# EAGLE library part S-CLK (library snes_mb)
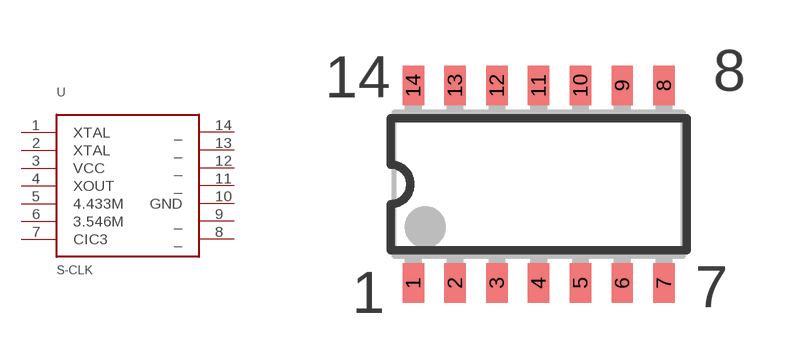
[diagram p14: symbol with the pads of SO14L; footprint SO14L]

Designator prefix U

## S-CLK  [SO14L]
1  XTAL
2  XTAL
3  VCC  pwr
4  XOUT
5  4.433M
6  3.546M
7  CIC3
8  _
9  _
10  GND  pwr
11  _
12  _
13  _
14  _

## Footprint SO14L (pad centres in mm)
smd 0.65 x 1.2: 1 -3.81,-3; 2 -2.54,-3; 3 -1.27,-3; 4 0,-3; 5 1.27,-3; 6 2.54,-3; 7 3.81,-3; 8 3.81,3; 9 2.54,3; 10 1.27,3; 11 0,3; 12 -1.27,3; 13 -2.54,3; 14 -3.81,3